# EAGLE library part ADG1434CP (library analog-devices)
ANALOG iCMOS SWITCH
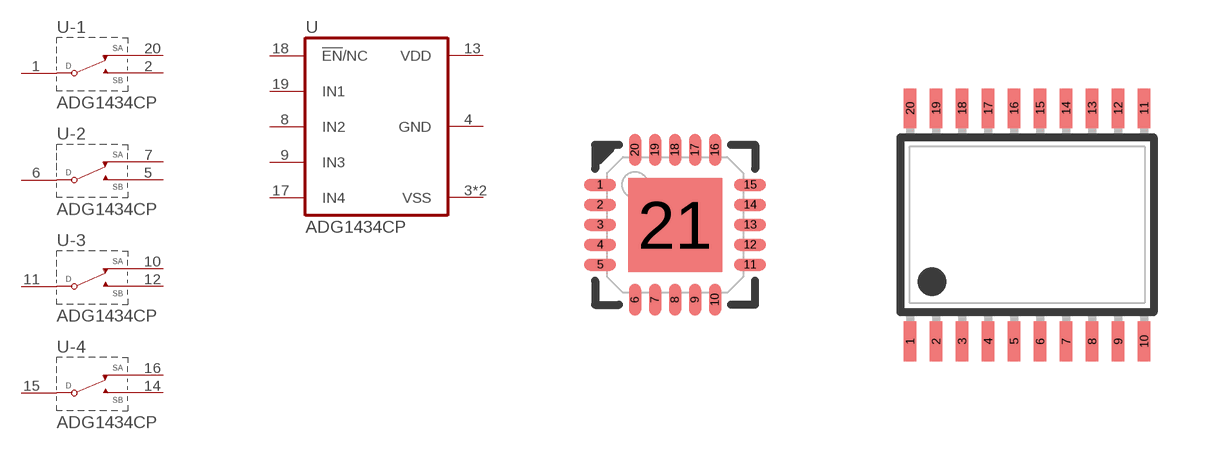
[diagram p78: symbol with the pads of LFCSP20_VQ; footprints LFCSP20_VQ, TSSOP20]

Designator prefix U; gates G$1=ADG1434VQ -1=ADG-SPDT -2=ADG-SPDT -3=ADG-SPDT -4=ADG-SPDT

## ADG1434CPCP  [LFCSP20_VQ]
1  -1:D  pas
2  -1:SB  pas
3  G$1:VSS  pwr
4  G$1:GND  pwr
5  -2:SB  pas
6  -2:D  pas
7  -2:SA  pas
8  G$1:IN2  in
9  G$1:IN3  in
10  -3:SA  pas
11  -3:D  pas
12  -3:SB  pas
13  G$1:VDD  pwr
14  -4:SB  pas
15  -4:D  pas
16  -4:SA  pas
17  G$1:IN4  in
18  G$1:!EN!/NC  in
19  G$1:IN1  in
20  -1:SA  pas
21  G$1:VSS  pwr

## ADG1434CP  [TSSOP20]
1  G$1:IN1  in
2  -1:SA  pas
3  -1:D  pas
4  -1:SB  pas
5  G$1:VSS  pwr
6  G$1:GND  pwr
7  -2:SB  pas
8  -2:D  pas
9  -2:SA  pas
10  G$1:IN2  in
11  G$1:IN3  in
12  -3:SA  pas
13  -3:D  pas
14  -3:SB  pas
15  G$1:!EN!/NC  in
16  G$1:VDD  pwr
17  -4:SB  pas
18  -4:D  pas
19  -4:SA  pas
20  G$1:IN4  in

## Footprint LFCSP20_VQ (pad centres in mm)
LFCSP_VQ 20 4 mm × 4 mm Body, Very Thin Quad
smd 0.8 x 0.3: 1 -1.875,1; 2 -1.875,0.5; 3 -1.875,0; 4 -1.875,-0.5; 5 -1.875,-1; 11 1.875,-1; 12 1.875,-0.5; 13 1.875,0; 14 1.875,0.5; 15 1.875,1
smd 0.3 x 0.8: 6 -1,-1.875; 7 -0.5,-1.875; 8 0,-1.875; 9 0.5,-1.875; 10 1,-1.875; 16 1,1.875; 17 0.5,1.875; 18 0,1.875; 19 -0.5,1.875; 20 -1,1.875
smd 2.35 x 2.35: 21 0,0

## Footprint TSSOP20 (pad centres in mm)
Thin Shrink Small Outline Plastic 20
smd 0.305 x 0.991: 1 -2.925,-2.918; 2 -2.275,-2.918; 3 -1.625,-2.918; 4 -0.975,-2.918; 5 -0.325,-2.918; 6 0.325,-2.918; 7 0.975,-2.918; 8 1.625,-2.918; 9 2.275,-2.918; 10 2.925,-2.918; 11 2.925,2.918; 12 2.275,2.918; 13 1.625,2.918; 14 0.975,2.918; 15 0.325,2.918; 16 -0.325,2.918; 17 -0.975,2.918; 18 -1.625,2.918; 19 -2.275,2.918; 20 -2.925,2.918